# Altium schematic symbol library Switchcraft_114B.SchLib: 1 symbol
Pins are listed as number, name and electrical type; pins without a type are passive.

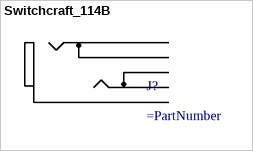
[diagram p0: symbol Switchcraft_114B]

## Switchcraft_114B
designator J?
pins: R, RS, SLV, T, TS